# Altium schematic symbol library BQ25895.SchLib: 8 symbols
Pins are listed as number, name and electrical type; pins without a type are passive.

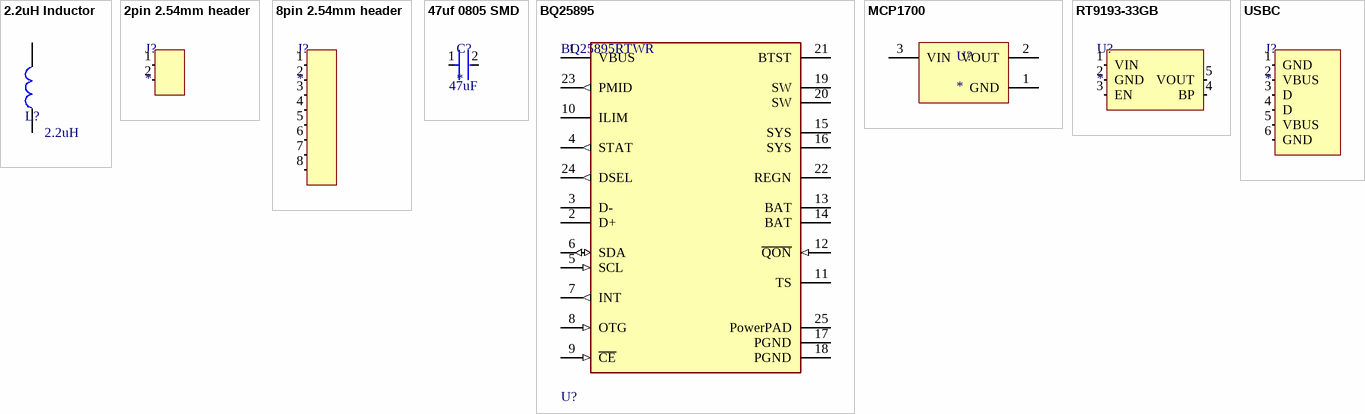
[diagram p0: symbols 2.2uH Inductor to USBC]

## 2.2uH Inductor
designator L?  value 2.2uH
±20% 6.5A 6A Integrated molded inductor 2.2uH SMD,4x4mm Power Inductors ROHS; Current: 6A; LCSC: C20417190
footprint 2.2uH Inductor

## 2pin 2.54mm header
designator J?
footprint 2.54mm 2pin header
pins: 1 (in), 2 (in)

## 8pin 2.54mm header
designator J?
footprint 8pin 2.54mm header
pins: 1 (in), 2 (in), 3 (in), 4 (in), 5 (in), 6 (in), 7 (in), 8 (in)

## 47uf 0805 SMD
designator C?  value 47uF
Ceramic Capacitor, Multilayer, Ceramic, 6.3V, 20% +Tol, 20% -Tol, X5R, 15% TC, 47uF, Surface Mount, 0805; Manufacturer: KEMET; Manufacturer Part Number: C0805C476M9PACTU; Multilayer: Yes; LCSC: C16780; Supplier: Mouser; Supplier Part Number: 80-C0805C476M9P; RoHS: Yes; Category: Ceramic Capacitors; Stock: 168175; Pricing: 1=0.87, 10=0.561, 50=0.561, 100=0.438, 1000=0.436, 10000=0.247 (USD); Mounting Technology: Surface Mount; Pins: 2; Dielectric Material: Ceramic; Package Shape: Rectangular; Case/Package: 0805; Terminal Finish: Nickel; Min Operating Temperature: -55°C; Max Operating Temperature: 85°C; JESD-609 Code: e3; Capacitor Type: Ceramic; Tolerance  (fill in as +-): 20%; Package Style: SMTMeter; Packaging: Tape and Reel; Tolerance (fill in as +-): 20%; Rated DC Voltage (URdc): 6.3V; Temperature Characteristics Code: X5R; Termination: Wraparound; Length: 2mm; Width: 1.25mm; Height: 1.25mm; Reach SVHC Compliant: Yes; RoHS Compliant: Yes; ComponentLink1URL: https://datasheet.ciiva.com:443/pdfs/VipMasterIC/IC/KEME/KEME-S-A0008991665/KEME-S-A0008991665-1.pdf?src-supplier=IHS+Markit; ComponentLink1Description: https://datasheet.ciiva.com:443/pdfs/VipMasterIC/IC/KEME/KEME-S-A0008991665/KEME-S-A0008991665-1.pdf?src-supplier=IHS+Markit; ComponentLink2URL: https://datasheet.ciiva.com/7842/40889-7842618.pdf?src-supplier=Element14; ComponentLink2Description: https://datasheet.ciiva.com/7842/40889-7842618.pdf?src-supplier=Element14; ComponentLink3URL: https://datasheet.ciiva.com/6137/40889-6137142.pdf?src-supplier=Farnell; ComponentLink3Description: https://datasheet.ciiva.com/6137/40889-6137142.pdf?src-supplier=Farnell
footprint 47uf 0805 SMD
pins: 1, 2

## BQ25895
designator U?, comment BQ25895RTWR
IC NVDC CHARGER I2C 24WQFN; Output Current: 5A; Number of Cells: 1; Output Voltage: 4.6V; Operating Supply Voltage: 14V; Max Operating Temperature: 85°C; Lead Free: Lead Free; Contact Plating: Gold; RoHS Compliant: Yes; Mount: Surface Mount; Min Operating Temperature: -40°C; LCSC: C80200
footprint FP-RTW0024H-IPC_A
pins: 1 VBUS (power), 2 D+, 3 D-, 4 STAT (out), 5 SCL (in), 6 SDA (io), 7 INT (out), 8 OTG (in), 9 ~{CE} (in), 10 ILIM, 11 TS, 12 ~{QON} (in), 13 BAT (power), 14 BAT (power), 15 SYS (power), 16 SYS (power), 17 PGND (power), 18 PGND (power), 19 SW, 20 SW, 21 BTST (power), 22 REGN (power), 23 PMID (out), 24 DSEL (out), 25 PowerPAD (power)

## MCP1700
designator U?
Fixed Positive LDO Regulator, 1.8V, 0.35V Dropout, CMOS, PDSO3; Manufacturer: Microchip; Manufacturer Part Number: MCP1700T-1802E/TT; Package Body Material: Plastic; Dropout Voltage1-Max: 350mV; Dropout Voltage1-Nom: 150mV; Input Voltage Absolute-Max: 6.5V; Max Supply Voltage: 6V; Min Input Voltage: 2.3V; Channels: 1; Output Current1-Max: 200mA; Output Voltage1-Max: 1.854V; Output Voltage1-Min: 1.746V; Package Equivalence Code: TO-243; Regulator Type: FIXED POSITIVE SINGLE OUTPUT LDO REGULATOR; Time @ Peak Reflow Temperature-Max (s): 40s; Voltage Tolerance-Max: 3%; Qualification Status: Not Qualified; Supplier: Arrow Electronics; Supplier Part Number: MCP1700T-1802E/TT; RoHS: Yes; Category: Voltage Regulators - Linear; Stock: 12000; Pricing: 3000=0.381 (USD); Case/Package: TSOP; Pins: 3; Package Shape: Rectangular; Terminal Finish: Tin; JESD-609 Code: e3; Adjustability: FIXED; JESD-30 Code: R-PDSO-G3; Moisture Sensitivity Level: 1; Number of Outputs: 1; Operating Temperature, TJ-Max: 125°C; Operating Temperature, TJ-Min: -40°C; Output Voltage1-Nom: 1.8V; Packaging: Tape and Reel; Peak Reflow Temperature (Cel): 260°C; Surface Mount: Yes; Technology: CMOS; Terminal Form: Gull Wing; Terminal Position: DUAL; Length: 2.92mm; Width: 1.3mm; Height - Seated (Max): 1.12mm; Terminal Pitch: 0.95mm; Reach SVHC Compliant: Yes; RoHS Compliant: Yes; ComponentLink1URL: https://datasheet.ciiva.com:443/pdfs/VipMasterIC/IC/MCHP/MCHP-S-A0006757370/MCHP-S-A0006757370-1.pdf?src-supplier=IHS+Markit; ComponentLink1Description: https://datasheet.ciiva.com:443/pdfs/VipMasterIC/IC/MCHP/MCHP-S-A0006757370/MCHP-S-A0006757370-1.pdf?src-supplier=IHS+Markit; LCSC: C150796
footprint Model Name (Model Description)
footprint MCP1700-18
pins: 1 GND (power), 2 VOUT (power), 3 VIN (power)

## RT9193-33GB
designator U?
footprint SOT-23-5
pins: 1 VIN (in), 2 GND (in), 3 EN (in), 4 BP (in), 5 VOUT (in)

## USBC
designator J?
LCSC: C5187411
footprint USBC
footprint USBC
pins: 1 GND, 2 VBUS, 3 D, 4 D, 5 VBUS, 6 GND